# Altium schematic symbol library C0805C105K3RACTU.SchLib: 2 symbols
Pins are listed as number, name and electrical type; pins without a type are passive.

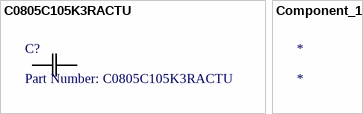
[diagram p0: symbols C0805C105K3RACTU to Component_1]

## C0805C105K3RACTU
designator C?, comment Part Number: C0805C105K3RACTU
No Description Available; Vendor: KEMET; Built_By: EMA_UL_Team; Type: DEV; Manufacturer_Part_Number: C0805C105K3RACTU; Copyright: Copyright (C) 2018 Accelerated Designs. All rights reserved; RefDes: RefDes; Value: Value
footprint CAP_C0805
pins: 1, 2

## Component_1
designator *